# Altium schematic symbol library Diodes-TVS.SchLib: 9 symbols
Pins are listed as number, name and electrical type; pins without a type are passive.

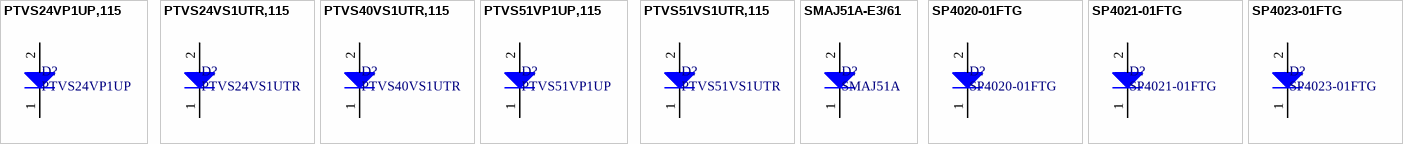
[diagram p0: symbols PTVS24VP1UP,115 to SP4023-01FTG]

## PTVS24VP1UP,115
designator D?, comment PTVS24VP1UP
PartNumber: PTVS24VP1UP,115; Manufacturer: NXP; PackageReference: SOD-128; Mounting Technology: Surface Mount; PackageDescription: SOD128, 2-Leads
footprint SOD-128 (SODFL, 2-Leads, Body 2.50x4.70mm, IPC Medium Density)
pins: 1 K, 2 A

## PTVS24VS1UTR,115
designator D?, comment PTVS24VS1UTR
PartNumber: PTVS24VS1UTR,115; Manufacturer: NXP; PackageReference: SOD-123W; Mounting Technology: Surface Mount; PackageDescription: SOD123W, 2-Leads
footprint SOD-123W (SODFL, 2-Leads, Body 1.70x3.50mm, IPC Medium Density)
pins: 1 K, 2 A

## PTVS40VS1UTR,115
designator D?, comment PTVS40VS1UTR
PartNumber: PTVS40VS1UTR,115; Manufacturer: NXP; PackageReference: SOD-123W; Mounting Technology: Surface Mount; PackageDescription: SOD123W, 2-Leads
footprint SOD-123W (SODFL, 2-Leads, Body 1.70x3.50mm, IPC Medium Density)
pins: 1 K, 2 A

## PTVS51VP1UP,115
designator D?, comment PTVS51VP1UP
PartNumber: PTVS51VP1UP,115; Manufacturer: NXP; PackageReference: SOD-128; Mounting Technology: Surface Mount; PackageDescription: SOD128, 2-Leads
footprint SOD-128 (SODFL, 2-Leads, Body 2.50x4.70mm, IPC Medium Density)
pins: 1 K, 2 A

## PTVS51VS1UTR,115
designator D?, comment PTVS51VS1UTR
PartNumber: PTVS51VS1UTR,115; Manufacturer: NXP; PackageReference: SOD-123W; Mounting Technology: Surface Mount; PackageDescription: SOD123W, 2-Leads
footprint SOD-123W (SODFL, 2-Leads, Body 1.70x3.50mm, IPC Medium Density)
pins: 1 K, 2 A

## SMAJ51A-E3/61
designator D?, comment SMAJ51A
PartNumber: SMAJ51A-E3/61; Manufacturer: Vishay; PackageReference: DO-214AC; Mounting Technology: Surface Mount; PackageDescription: DO-214AC, 2 Leads
footprint DO-214AC (DO-214AC, 2-Leads, Body 4.5x2.79mm, IPC Medium Density)
pins: 1 K, 2 A

## SP4020-01FTG
designator D?
Manufacturer: Littelfuse; PartNumber: SP4020-01FTG; PackageReference: SOD-323-2; Mounting Technology: Surface Mount
footprint SOD-323 (SODFL, 2-Leads, Body 1.30x2.57mm, IPC Medium Density)
pins: 1 K, 2 A

## SP4021-01FTG
designator D?
Manufacturer: Littelfuse; PartNumber: SP4021-01FTG; PackageReference: SOD-323-2; Mounting Technology: Surface Mount
footprint SOD-323 (SODFL, 2-Leads, Body 1.30x2.57mm, IPC Medium Density)
pins: 1 K, 2 A

## SP4023-01FTG
designator D?
Manufacturer: Littelfuse; PackageReference: SOD-323-2; PartNumber: SP4023-01FTG; Mounting Technology: Surface Mount; PackageDescription: SOD323, 2-Leads
footprint SOD-323 (SODFL, 2-Leads, Body 1.30x2.57mm, IPC Medium Density)
pins: 1 K, 2 A